# Altium integrated library Infineon_Power_Smart_Low-Side_&_High-Side_Switches.IntLib: 238 symbols (part 4 of 14)
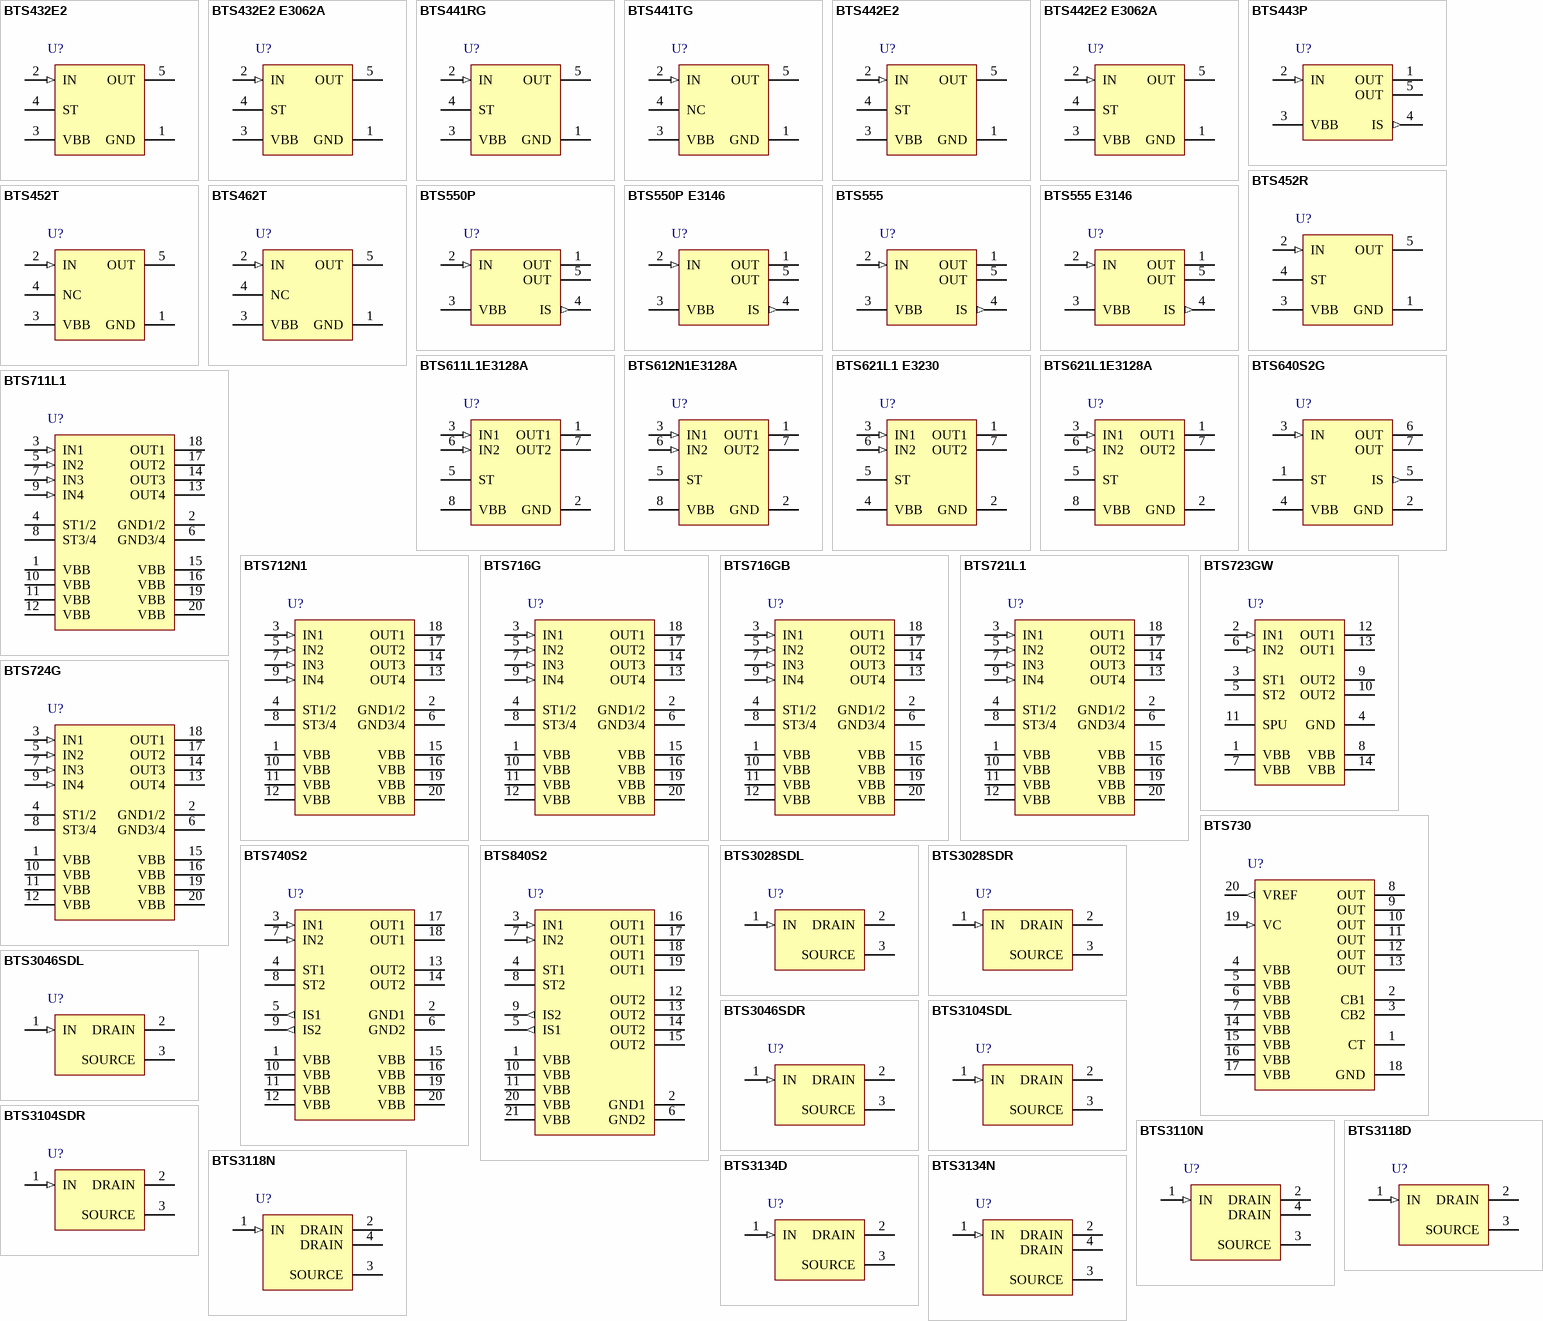
[diagram p10: symbols BTS432E2 to BTS3134N]

## BTS730
designator U?
Smart High-Side Power Switch, 1 Channel, 3 A Load Current, -40 to 150 degC, PG-DSO-20-31, Reel, Green; Manufacturer: Infineon; PartNumber: BTS730; Channels: 1; Green: TRUE; Group: Automotive Qualified; Load Current (typ): 3 A; Ptot (max): 3 W; Recommended Operating Voltage Max.: 16.9 V; Recommended Operating Voltage Min.: 5.9 V; RON @ 25degreesC: 70 mOhm; RON(max) @ 150degreesC: 140 mOhm; DatasheetVersion: Rev. 1.0; PackageVersion: Jan-12; PackageReference: PG-DSO-20-31; PackageDescription: 20-Pin Plastic (Green) Dual Small Outline Package, 12.7 x 7.5 mm Body, 1.27 mm Pitch; Supplier 1: Mouser; Supplier Part Number 1: 726-BTS730; Supplier 2: Digi-Key; Supplier Part Number 2: BTS730TR-ND; Supplier 3: Digi-Key; Supplier Part Number 3: BTS730CT-ND; Supplier 4: Digi-Key; Supplier Part Number 4: BTS730DKR-ND; Halogen-free: TRUE; Packing: Reel; Mounting Technology: Surface Mount; ComponentLink1Description: Manufacturer URL; ComponentLink1URL: http://www.infineon.com/; ComponentLink2Description: Datasheet; ComponentLink2URL: http://www.infineon.com/dgdl/BTS730.pdf?folderId=db3a304314dca389011537739e37155f&fileId=db3a30431c48a312011c4c202968001e&location=en.Products.Automotive_ICs.Smart_High-_and_Low-Side_Switches.PROFET__-_Smart_High_Side_Switches.DATASHEET.BTS730.pdf; ComponentLink3Description: Package Specification; ComponentLink3URL: http://www.infineon.com/dgdl/BTS711L1_DS13.pdf?folderId=db3a304314dca389011537739e37155f&fileId=db3a30432239cccd0122e55f98d43c5f&sId=db3a30433d68e984013d81ad4c8d73f2
footprint INF-PG-DSO-20-31_N (SOP, 20-Leads, Body 12.7x7.5mm, Pitch 1.27mm, IPC High Density)
footprint INF-PG-DSO-20-31_L (SOP, 20-Leads, Body 12.7x7.5mm, Pitch 1.27mm, IPC High Density)
footprint INF-PG-DSO-20-31_M (SOP, 20-Leads, Body 12.7x7.5mm, Pitch 1.27mm, IPC Low Density)
pins: 1 CT "Timing capacitor for frequency.", 2 CB1 "Bootstrap capacitor", 3 CB2 "Bootstrap capacitor", 4 VBB (power) "Supply voltage (Leadframe connected)", 5 VBB (power) "Supply voltage (Leadframe connected)", 6 VBB (power) "Supply voltage (Leadframe connected)", 7 VBB (power) "Supply voltage (Leadframe connected)", 8 OUT (power) "Output", 9 OUT (power) "Output", 10 OUT (power) "Output", 11 OUT (power) "Output", 12 OUT (power) "Output", 13 OUT (power) "Output", 14 VBB (power) "Supply voltage (Leadframe connected)", 15 VBB (power) "Supply voltage (Leadframe connected)", 16 VBB (power) "Supply voltage (Leadframe connected)", 17 VBB (power) "Supply voltage (Leadframe connected)", 18 GND (power) "Ground", 19 VC (in) "Voltage for PWM-Control", 20 VREF (out) "Reference Voltage."

## BTS740S2
designator U?
Smart High-Side Power Switch, 2 Channels, 3.9 A Load Current, -40 to 150 degC, PG-DSO-20-31, Reel, Green; Manufacturer: Infineon; PartNumber: BTS740S2; Channels: 2; Green: TRUE; Group: Automotive Qualified; Load Current (typ): 3.9 A; Ptot (max): 3.8 W; Recommended Operating Voltage Max.: 34 V; Recommended Operating Voltage Min.: 5 V; RON @ 25degreesC: 30 mOhm; RON(max) @ 150degreesC: 60 mOhm; toff (max): 200 us; ton (max): 150 us; DatasheetVersion: Rev. 1.0; PackageVersion: Jan-12; PackageReference: PG-DSO-20-31; PackageDescription: 20-Pin Plastic (Green) Dual Small Outline Package, 12.7 x 7.5 mm Body, 1.27 mm Pitch; Supplier 1: Mouser; Supplier Part Number 1: 726-BTS740S2; Supplier 2: Digi-Key; Supplier Part Number 2: BTS740S2TR-ND; Supplier 3: Digi-Key; Supplier Part Number 3: BTS740S2CT-ND; Supplier 4: Digi-Key; Supplier Part Number 4: BTS740S2DKR-ND; Halogen-free: TRUE; Packing: Reel; Mounting Technology: Surface Mount; ComponentLink1Description: Manufacturer URL; ComponentLink1URL: http://www.infineon.com/; ComponentLink2Description: Datasheet; ComponentLink2URL: http://www.infineon.com/dgdl/BTS740S2.pdf?folderId=db3a304314dca389011537739e37155f&fileId=db3a304316f112290116f2cd736f729f&location=en.Products.Automotive_ICs.Smart_High-_and_Low-Side_Switches.PROFET__-_Smart_High_Side_Switches.DATASHEET.BTS740S2.pdf; ComponentLink3Description: Package Specification; ComponentLink3URL: http://www.infineon.com/dgdl/BTS711L1_DS13.pdf?folderId=db3a304314dca389011537739e37155f&fileId=db3a30432239cccd0122e55f98d43c5f&sId=db3a30433d68e984013d81ad4c8d73f2
footprint INF-PG-DSO-20-31_N (SOP, 20-Leads, Body 12.7x7.5mm, Pitch 1.27mm, IPC High Density)
footprint INF-PG-DSO-20-31_L (SOP, 20-Leads, Body 12.7x7.5mm, Pitch 1.27mm, IPC High Density)
footprint INF-PG-DSO-20-31_M (SOP, 20-Leads, Body 12.7x7.5mm, Pitch 1.27mm, IPC Low Density)
pins: 1 VBB (power) "Positive power supply voltage. Design the wiring for the simultaneous max. short circuit currents from channel 1 to 2 and also for low thermal resistance", 2 GND1 (power) "Ground 1 of chip 1 (channel 1)", 3 IN1 (in) "Input 1,2, activates channel 1,2 in case of logic high signal", 4 ST1 (oc) "Diagnostic feedback 1,2 of channel 1,2, open drain, invers to input level", 5 IS1 (out) "Sense current output 1,2; proportional to the load current, zero in the case of current limitation of the load current", 6 GND2 (power) "Ground 2 of chip 2 (channel 2)", 7 IN2 (in) "Input 1,2, activates channel 1,2 in case of logic high signal", 8 ST2 (oc) "Diagnostic feedback 1,2 of channel 1,2, open drain, invers to input level", 9 IS2 (out) "Sense current output 1,2; proportional to the load current, zero in the case of current limitation of the load current", 10 VBB (power) "Positive power supply voltage. Design the wiring for the simultaneous max. short circuit currents from channel 1 to 2 and also for low thermal resistance", 11 VBB (power) "Positive power supply voltage. Design the wiring for the simultaneous max. short circuit currents from channel 1 to 2 and also for low thermal resistance", 12 VBB (power) "Positive power supply voltage. Design the wiring for the simultaneous max. short circuit currents from channel 1 to 2 and also for low thermal resistance", 13 OUT2 (power) "Output 1,2, protected high-side power output of channel 1,2. Both pins of each output have to be connected in parallel for operation according ths spec (e.g. kilis). Design the wiring for the max. short circuit current", 14 OUT2 (power) "Output 1,2, protected high-side power output of channel 1,2. Both pins of each output have to be connected in parallel for operation according ths spec (e.g. kilis). Design the wiring for the max. short circuit current", 15 VBB (power) "Positive power supply voltage. Design the wiring for the simultaneous max. short circuit currents from channel 1 to 2 and also for low thermal resistance", 16 VBB (power) "Positive power supply voltage. Design the wiring for the simultaneous max. short circuit currents from channel 1 to 2 and also for low thermal resistance", 17 OUT1 (power) "Output 1,2, protected high-side power output of channel 1,2. Both pins of each output have to be connected in parallel for operation according ths spec (e.g. kilis). Design the wiring for the max. short circuit current", 18 OUT1 (power) "Output 1,2, protected high-side power output of channel 1,2. Both pins of each output have to be connected in parallel for operation according ths spec (e.g. kilis). Design the wiring for the max. short circuit current", 19 VBB (power) "Positive power supply voltage. Design the wiring for the simultaneous max. short circuit currents from channel 1 to 2 and also for low thermal resistance", 20 VBB (power) "Positive power supply voltage. Design the wiring for the simultaneous max. short circuit currents from channel 1 to 2 and also for low thermal resistance"

## BTS840S2
designator U?
Smart High-Side Power Switch, 2 Channels, 12 A Load Current, -40 to 150 degC, P-DSO-20-12, Reel; Manufacturer: Infineon; PartNumber: BTS840S2; Channels: 2; Green: FALSE; Group: Automotive Qualified; Load Current (typ): 12 A; Ptot (max): 3.8 W; Recommended Operating Voltage Max.: 34 V; Recommended Operating Voltage Min.: 5 V; RON @ 25degreesC: 30 mOhm; toff (max): 200 us; ton (max): 150 us; PackageVersion: Oct-03; PackageReference: P-DSO-20-12; PackageDescription: 20-Pin Plastic Dual Small Outline Package, 15.9 x 11 mm Body, 1.27 mm Pitch; Supplier 1: Mouser; Supplier Part Number 1: 726-BTS840S2; Supplier 2: Digi-Key; Supplier Part Number 2: BTS840S2INTR-ND; Supplier 3: Digi-Key; Supplier Part Number 3: BTS840S2INCT-ND; Supplier 4: Digi-Key; Supplier Part Number 4: BTS840S2INDKR-ND; Halogen-free: FALSE; Packing: Reel; Mounting Technology: Surface Mount; ComponentLink1Description: Manufacturer URL; ComponentLink1URL: http://www.infineon.com/; ComponentLink2Description: Datasheet; ComponentLink2URL: http://www.infineon.com/dgdl/BTS840S2_20030919.pdf?folderId=db3a30431ddc9372011e26863f92474e&fileId=db3a3043324cae8c01325da3b5ab0aa5&location=en.Products.Automotive_ICs.Smart_High-_and_Low-Side_Switches.PROFET__-_Smart_High_Side_Switches.DATASHEET.BTS840S2_20030919.pdf; ComponentLink3Description: Package Specification; ComponentLink3URL: http://www.infineon.com/dgdl/BTS840S2_20030919.pdf?folderId=db3a30431ddc9372011e26863f92474e&fileId=db3a3043324cae8c01325da3b5ab0aa5&sId=db3a30433d68e984013d856d6e600dde
footprint INF-P-DSO-20-12_N (SOP, 20-Leads, Body 15.9x11mm, Pitch 1.27mm, Thermal Pad 16.05x6mm, IPC Medium Density)
footprint INF-P-DSO-20-12_L (SOP, 20-Leads, Body 15.9x11mm, Pitch 1.27mm, Thermal Pad 16.05x6mm, IPC High Density)
footprint INF-P-DSO-20-12_M (SOP, 20-Leads, Body 15.9x11mm, Pitch 1.27mm, Thermal Pad 16.05x6mm, IPC Low Density)
pins: 1 VBB (power) "Positive power supply voltage. For high current applications the heat slug should be used as Vbb connection.", 2 GND1 (power) "Ground 1,2 of chip channel 1,2", 3 IN1 (in) "Input 1,2, activates channel 1,2 in case of logic high signal", 4 ST1 (oc) "Diagnostic feedback 1,2 of channel 1,2 open drain, invers to input level", 5 IS1 (out) "Sense current output 1,2; proportional to the load current, zero in the case of current limitation of the load current", 6 GND2 (power) "Ground 1,2 of chip channel 1,2", 7 IN2 (in) "Input 1,2, activates channel 1,2 in case of logic high signal", 8 ST2 (oc) "Diagnostic feedback 1,2 of channel 1,2 open drain, invers to input level", 9 IS2 (out) "Sense current output 1,2; proportional to the load current, zero in the case of current limitation of the load current", 10 VBB (power) "Positive power supply voltage. For high current applications the heat slug should be used as Vbb connection.", 11 VBB (power) "Positive power supply voltage. For high current applications the heat slug should be used as Vbb connection.", 12 OUT2 (power) "Output 1,2, protected high-side power output of channel 1,2. All pins of each output have to be connected in parallel for operation according ths spec (e.g. kilis). Design the wiring for the max. short circuit current", 13 OUT2 (power) "Output 1,2, protected high-side power output of channel 1,2. All pins of each output have to be connected in parallel for operation according ths spec (e.g. kilis). Design the wiring for the max. short circuit current", 14 OUT2 (power) "Output 1,2, protected high-side power output of channel 1,2. All pins of each output have to be connected in parallel for operation according ths spec (e.g. kilis). Design the wiring for the max. short circuit current", 15 OUT2 (power) "Output 1,2, protected high-side power output of channel 1,2. All pins of each output have to be connected in parallel for operation according ths spec (e.g. kilis). Design the wiring for the max. short circuit current", 16 OUT1 (power) "Output 1,2, protected high-side power output of channel 1,2. All pins of each output have to be connected in parallel for operation according ths spec (e.g. kilis). Design the wiring for the max. short circuit current", 17 OUT1 (power) "Output 1,2, protected high-side power output of channel 1,2. All pins of each output have to be connected in parallel for operation according ths spec (e.g. kilis). Design the wiring for the max. short circuit current", 18 OUT1 (power) "Output 1,2, protected high-side power output of channel 1,2. All pins of each output have to be connected in parallel for operation according ths spec (e.g. kilis). Design the wiring for the max. short circuit current", 19 OUT1 (power) "Output 1,2, protected high-side power output of channel 1,2. All pins of each output have to be connected in parallel for operation according ths spec (e.g. kilis). Design the wiring for the max. short circuit current", 20 VBB (power) "Positiv powersupply voltage. Good way to design a very low thermal resistance.", 21 VBB (power) "Positiv powersupply voltage. Good way to design a very low thermal resistance."

## BTS3028SDL
designator U?
HITFET 28 mOhm Single Channel Smart Low Side Power Switch for 12 V & 24 V Application, 60 V VDS, 5 A ID, -40 to 150 degC, PG-TO252-3-11, Reel, Green; Manufacturer: Infineon; PartNumber: BTS3028SDL; Channels: 1; Green: TRUE; ID: 5 A; ID(lim) (min): 18 A; RDS (on)(max): 30 mOhm; ton (max): 100 us; toff (max): 120 us; VDS (max): 60 V; DatasheetVersion: Rev. 1.0; PackageVersion: Dec-06; PackageReference: PG-TO252-3-11; PackageDescription: 3-Pin Plastic (Green) Transistor Single Outline Package, 6.5 x 6.12 mm Body, 2.28 mm Pitch; Supplier 1: Mouser; Supplier Part Number 1: 726-BTS3028SDL; Supplier 2: Digi-Key; Supplier Part Number 2: BTS3028SDL-ND; Group: HITFET; Halogen-free: TRUE; ID(nom): 5 A; Packing: Reel; Mounting Technology: Surface Mount; ComponentLink1Description: Manufacturer URL; ComponentLink1URL: http://www.infineon.com/; ComponentLink2Description: Datasheet; ComponentLink2URL: http://www.infineon.com/dgdl/BTS3028SDL_DS_10.pdf?folderId=db3a3043163797a6011667aa084c0e01&fileId=db3a304325afd6e00126320ad72c63fb&location=en.Products.Automotive_ICs.Smart_High-_and_Low-Side_Switches.HITFET___TEMPFET__-_Smart_Low-Side_Switches.DATASHEET.BTS3028SDL_DS_10.pdf; ComponentLink3Description: Package Specification; ComponentLink3URL: http://www.infineon.com/dgdl/BTS142_DS_13.pdf?folderId=db3a3043163797a6011667aa084c0e01&fileId=db3a3043163797a6011667ac98be0e02&location=en.Products.Automotive_ICs.Smart_High-_and_Low-Side_Switches.HITFET___TEMPFET__-_Smart_Low-Side_Switches.DATASHEET.BTS142_DS_13.pdf
footprint INF-PG-TO252-3-11_N (DPAK, 3-Leads, Body 6.5x6.12mm, Pitch 2.28mm, IPC Medium Density)
footprint INF-PG-TO252-3-11_L (DPAK, 3-Leads, Body 6.5x6.12mm, Pitch 2.28mm, IPC High Density)
footprint INF-PG-TO252-3-11_M (DPAK, 3-Leads, Body 6.5x6.12mm, Pitch 2.28mm, IPC Low Density)
pins: 1 IN (in) "Input and fault feedback", 2 DRAIN (power) "Load connection for power DMOS", 3 SOURCE (power) "Ground, Source of power DMOS"

## BTS3028SDR
designator U?
HITFET 28 mOhm Single Channel Smart Low Side Power Switch for 12 V & 24 V Application, 60 V VDS, 5 A ID, -40 to 150 degC, PG-TO252-3-11, Reel, Green; Manufacturer: Infineon; PartNumber: BTS3028SDR; Channels: 1; Green: TRUE; ID: 5 A; ID(lim) (min): 18 A; RDS (on)(max): 30 mOhm; ton (max): 100 us; toff (max): 120 us; VDS (max): 60 V; DatasheetVersion: Rev. 1.0; PackageVersion: Dec-06; PackageReference: PG-TO252-3-11; PackageDescription: 3-Pin Plastic (Green) Transistor Single Outline Package, 6.5 x 6.12 mm Body, 2.28 mm Pitch; Supplier 1: Mouser; Supplier Part Number 1: 726-BTS3028SDR; Supplier 2: Digi-Key; Supplier Part Number 2: BTS3028SDR-ND; Group: HITFET; Halogen-free: TRUE; ID(nom): 5 A; Packing: Reel; Mounting Technology: Surface Mount; ComponentLink1Description: Manufacturer URL; ComponentLink1URL: http://www.infineon.com/; ComponentLink2Description: Datasheet; ComponentLink2URL: http://www.infineon.com/dgdl/BTS3028SDR_DS_10.pdf?folderId=db3a3043163797a6011667aa084c0e01&fileId=db3a304325afd6e0012632122ea5640c&location=en.Products.Automotive_ICs.Smart_High-_and_Low-Side_Switches.HITFET___TEMPFET__-_Smart_Low-Side_Switches.DATASHEET.BTS3028SDR_DS_10.pdf; ComponentLink3Description: Package Specification; ComponentLink3URL: http://www.infineon.com/dgdl/BTS142_DS_13.pdf?folderId=db3a3043163797a6011667aa084c0e01&fileId=db3a3043163797a6011667ac98be0e02&location=en.Products.Automotive_ICs.Smart_High-_and_Low-Side_Switches.HITFET___TEMPFET__-_Smart_Low-Side_Switches.DATASHEET.BTS142_DS_13.pdf
footprint INF-PG-TO252-3-11_N (DPAK, 3-Leads, Body 6.5x6.12mm, Pitch 2.28mm, IPC Medium Density)
footprint INF-PG-TO252-3-11_L (DPAK, 3-Leads, Body 6.5x6.12mm, Pitch 2.28mm, IPC High Density)
footprint INF-PG-TO252-3-11_M (DPAK, 3-Leads, Body 6.5x6.12mm, Pitch 2.28mm, IPC Low Density)
pins: 1 IN (in) "Input and fault feedback", 2 DRAIN (power) "Load connection for power DMOS", 3 SOURCE (power) "Ground, Source of power DMOS"

## BTS3046SDL
designator U?
HITFET 46 mOhm Single Channel Smart Low Side Power Switch for12 V & 24 V Application, 60 V VDS, 3.6 A ID, -40 to 150 degC, PG-TO252-3-11, Reel, Green; Manufacturer: Infineon; PartNumber: BTS3046SDL; Channels: 1; Green: TRUE; ID: 3.6 A; ID(lim) (min): 10 A; RDS (on)(max): 50 mOhm; ton (max): 100 us; toff (max): 120 us; VDS (max): 60 V; DatasheetVersion: Rev. 1.0; PackageVersion: Dec-06; PackageReference: PG-TO252-3-11; PackageDescription: 3-Pin Plastic (Green) Transistor Single Outline Package, 6.5 x 6.12 mm Body, 2.28 mm Pitch; Supplier 1: Mouser; Supplier Part Number 1: 726-BTS3046SDL; Supplier 2: Digi-Key; Supplier Part Number 2: BTS3046SDL-ND; Group: HITFET; Halogen-free: TRUE; ID(nom): 3.6 A; Packing: Reel; Mounting Technology: Surface Mount; ComponentLink1Description: Manufacturer URL; ComponentLink1URL: http://www.infineon.com/; ComponentLink2Description: Datasheet; ComponentLink2URL: http://www.infineon.com/dgdl/BTS3046SDL_DS_10.pdf?folderId=db3a3043163797a6011667aa084c0e01&fileId=db3a304325afd6e001263232a5146438&location=en.Products.Automotive_ICs.Smart_High-_and_Low-Side_Switches.HITFET___TEMPFET__-_Smart_Low-Side_Switches.DATASHEET.BTS3046SDL_DS_10.pdf; ComponentLink3Description: Package Specification; ComponentLink3URL: http://www.infineon.com/dgdl/BTS142_DS_13.pdf?folderId=db3a3043163797a6011667aa084c0e01&fileId=db3a3043163797a6011667ac98be0e02&location=en.Products.Automotive_ICs.Smart_High-_and_Low-Side_Switches.HITFET___TEMPFET__-_Smart_Low-Side_Switches.DATASHEET.BTS142_DS_13.pdf
footprint INF-PG-TO252-3-11_N (DPAK, 3-Leads, Body 6.5x6.12mm, Pitch 2.28mm, IPC Medium Density)
footprint INF-PG-TO252-3-11_L (DPAK, 3-Leads, Body 6.5x6.12mm, Pitch 2.28mm, IPC High Density)
footprint INF-PG-TO252-3-11_M (DPAK, 3-Leads, Body 6.5x6.12mm, Pitch 2.28mm, IPC Low Density)
pins: 1 IN (in) "Input and fault feedback", 2 DRAIN (power) "Load connection for power DMOS", 3 SOURCE (power) "Ground, Source of power DMOS"

## BTS3046SDR
designator U?
HITFET 46 mOhm Single Channel Smart Low Side Power Switch for12 V & 24 V Application, 60 V VDS, 3.6 A ID, -40 to 150 degC, PG-TO252-3-11, Reel, Green; Manufacturer: Infineon; PartNumber: BTS3046SDR; Channels: 1; Green: TRUE; ID: 3.6 A; ID(lim) (min): 10 A; RDS (on)(max): 50 mOhm; ton (max): 100 us; toff (max): 120 us; VDS (max): 60 V; DatasheetVersion: Rev. 1.0; PackageVersion: Dec-06; PackageReference: PG-TO252-3-11; PackageDescription: 3-Pin Plastic (Green) Transistor Single Outline Package, 6.5 x 6.12 mm Body, 2.28 mm Pitch; Supplier 1: Mouser; Supplier Part Number 1: 726-BTS3046SDR; Supplier 2: Digi-Key; Supplier Part Number 2: BTS3046SDR-ND; Group: HITFET; Halogen-free: TRUE; ID(nom): 3.6 A; Packing: Reel; Mounting Technology: Surface Mount; ComponentLink1Description: Manufacturer URL; ComponentLink1URL: http://www.infineon.com/; ComponentLink2Description: Datasheet; ComponentLink2URL: http://www.infineon.com/dgdl/BTS3046SDR_DS_10.pdf?folderId=db3a3043163797a6011667aa084c0e01&fileId=db3a304325afd6e00126323663346449&location=en.Products.Automotive_ICs.Smart_High-_and_Low-Side_Switches.HITFET___TEMPFET__-_Smart_Low-Side_Switches.DATASHEET.BTS3046SDR_DS_10.pdf; ComponentLink3Description: Package Specification; ComponentLink3URL: http://www.infineon.com/dgdl/BTS142_DS_13.pdf?folderId=db3a3043163797a6011667aa084c0e01&fileId=db3a3043163797a6011667ac98be0e02&location=en.Products.Automotive_ICs.Smart_High-_and_Low-Side_Switches.HITFET___TEMPFET__-_Smart_Low-Side_Switches.DATASHEET.BTS142_DS_13.pdf
footprint INF-PG-TO252-3-11_N (DPAK, 3-Leads, Body 6.5x6.12mm, Pitch 2.28mm, IPC Medium Density)
footprint INF-PG-TO252-3-11_L (DPAK, 3-Leads, Body 6.5x6.12mm, Pitch 2.28mm, IPC High Density)
footprint INF-PG-TO252-3-11_M (DPAK, 3-Leads, Body 6.5x6.12mm, Pitch 2.28mm, IPC Low Density)
pins: 1 IN (in) "Input and fault feedback", 2 DRAIN (power) "Load connection for power DMOS", 3 SOURCE (power) "Ground, Source of power DMOS"

## BTS3104SDL
designator U?
HITFET 104 mOhm Single Channel Smart Low Side Power Switch for 12 V & 14 V Application, 60 V VDS, 2 A ID, -40 to 150 degC, PG-TO252-3-11, Reel, Green; Manufacturer: Infineon; PartNumber: BTS3104SDL; Channels: 1; Green: TRUE; ID: 2 A; ID(lim) (min): 6 A; ton (max): 100 us; toff (max): 120 us; VDS (max): 60 V; DatasheetVersion: Rev. 1.0; PackageVersion: Dec-06; PackageReference: PG-TO252-3-11; PackageDescription: 3-Pin Plastic (Green) Transistor Single Outline Package, 6.5 x 6.12 mm Body, 2.28 mm Pitch; Supplier 1: Mouser; Supplier Part Number 1: 726-BTS3104SDL; Supplier 2: Digi-Key; Supplier Part Number 2: BTS3104SDL-ND; Group: HITFET; Halogen-free: TRUE; ID(nom): 2 A; Packing: Reel; RDS (on)(max): 104 mOhm; Mounting Technology: Surface Mount; ComponentLink1Description: Manufacturer URL; ComponentLink1URL: http://www.infineon.com/; ComponentLink2Description: Datasheet; ComponentLink2URL: http://www.infineon.com/dgdl/BTS3104SDL_DS_10.pdf?folderId=db3a3043163797a6011667aa084c0e01&fileId=db3a304325afd6e00126323a45d9645b&location=en.Products.Automotive_ICs.Smart_High-_and_Low-Side_Switches.HITFET___TEMPFET__-_Smart_Low-Side_Switches.DATASHEET.BTS3104SDL_DS_10.pdf; ComponentLink3Description: Package Specification; ComponentLink3URL: http://www.infineon.com/dgdl/BTS142_DS_13.pdf?folderId=db3a3043163797a6011667aa084c0e01&fileId=db3a3043163797a6011667ac98be0e02&location=en.Products.Automotive_ICs.Smart_High-_and_Low-Side_Switches.HITFET___TEMPFET__-_Smart_Low-Side_Switches.DATASHEET.BTS142_DS_13.pdf
footprint INF-PG-TO252-3-11_N (DPAK, 3-Leads, Body 6.5x6.12mm, Pitch 2.28mm, IPC Medium Density)
footprint INF-PG-TO252-3-11_L (DPAK, 3-Leads, Body 6.5x6.12mm, Pitch 2.28mm, IPC High Density)
footprint INF-PG-TO252-3-11_M (DPAK, 3-Leads, Body 6.5x6.12mm, Pitch 2.28mm, IPC Low Density)
pins: 1 IN (in) "Input and fault feedback", 2 DRAIN (power) "Load connection for power DMOS", 3 SOURCE (power) "Ground, Source of power DMOS"

## BTS3104SDR
designator U?
104 mOhm Single Channel Smart Low Side Power Switch for 12 V & 24 V Application, 60 V VDS, 2 A ID, -40 to 150 degC, PG-TO252-3-11, Reel, Green; Manufacturer: Infineon; PartNumber: BTS3104SDR; Channels: 1; Green: TRUE; Group: HITFET; ID: 2 A; ID(lim) (min): 6 A; ton (max): 100 us; toff (max): 120 us; VDS (max): 60 V; DatasheetVersion: Rev. 1.0; PackageVersion: Dec-06; PackageReference: PG-TO252-3-11; PackageDescription: 3-Pin Plastic (Green) Transistor Single Outline Package, 6.5 x 6.12 mm Body, 2.28 mm Pitch; Supplier 1: Mouser; Supplier Part Number 1: 726-BTS3104SDR; Supplier 2: Digi-Key; Supplier Part Number 2: BTS3104SDR-ND; Halogen-free: TRUE; ID(nom): 2 A; Packing: Reel; RDS (on)(max): 104 mOhm; Mounting Technology: Surface Mount; ComponentLink1Description: Manufacturer URL; ComponentLink1URL: http://www.infineon.com/; ComponentLink2Description: Datasheet; ComponentLink2URL: http://www.infineon.com/dgdl/BTS3104SDR_DS_10.pdf?folderId=db3a3043163797a6011667aa084c0e01&fileId=db3a304325afd6e00126323d7380646d&location=en.Products.Automotive_ICs.Smart_High-_and_Low-Side_Switches.HITFET___TEMPFET__-_Smart_Low-Side_Switches.DATASHEET.BTS3104SDR_DS_10.pdf; ComponentLink3Description: Package Specification; ComponentLink3URL: http://www.infineon.com/dgdl/BTS142_DS_13.pdf?folderId=db3a3043163797a6011667aa084c0e01&fileId=db3a3043163797a6011667ac98be0e02&location=en.Products.Automotive_ICs.Smart_High-_and_Low-Side_Switches.HITFET___TEMPFET__-_Smart_Low-Side_Switches.DATASHEET.BTS142_DS_13.pdf
footprint INF-PG-TO252-3-11_N (DPAK, 3-Leads, Body 6.5x6.12mm, Pitch 2.28mm, IPC Medium Density)
footprint INF-PG-TO252-3-11_L (DPAK, 3-Leads, Body 6.5x6.12mm, Pitch 2.28mm, IPC High Density)
footprint INF-PG-TO252-3-11_M (DPAK, 3-Leads, Body 6.5x6.12mm, Pitch 2.28mm, IPC Low Density)
pins: 1 IN (in), 2 DRAIN (power), 3 SOURCE (power)

## BTS3110N
designator U?
Smart Low-Side Power Switch HITFET, 42 V VDS, 1.4 A ID, -40 to 150 degC, PG-SOT223-SC-73, Reel, Green; Manufacturer: Infineon; PartNumber: BTS3110N; Channels: 1; Green: TRUE; ID: 1.4 A; ID(lim) (min): 5 A; Ptot (max): 3.8 W; RDS (on)(max): 240 mOhm; ton (max): 100 us; VDS (max): 42 V; DatasheetVersion: Rev. 1.3; PackageVersion: Apr-08; PackageReference: PG-SOT223 (SC-73); PackageDescription: 4-Pin Small Outline Transistor Package, 6.5 x 3.5 mm Body, 2.3 mm Pitch; Supplier 1: Mouser; Supplier Part Number 1: 726-BTS3110N; Supplier 2: Newark; Supplier Part Number 2: 78X4825; Supplier 3: Farnell; Supplier Part Number 3: 2432483; Supplier 4: Digi-Key; Supplier Part Number 4: BTS3110NTR-ND; Supplier 5: Digi-Key; Supplier Part Number 5: BTS3110NCT-ND; Supplier 6: Digi-Key; Supplier Part Number 6: BTS3110NDKR-ND; Group: HITFET; Halogen-free: FALSE; ID(nom): 1.4 A; Packing: Reel; toff (max): 100 us; Mounting Technology: Surface Mount; ComponentLink1Description: Manufacturer URL; ComponentLink1URL: http://www.infineon.com/; ComponentLink2Description: Datasheet; ComponentLink2URL: http://www.infineon.com/dgdl/BTS3110N_DS_13.pdf?folderId=db3a3043163797a6011667aa084c0e01&fileId=db3a304319c6f18c0119c7bd0b64001f&location=en.Products.Automotive_ICs.Smart_High-_and_Low-Side_Switches.HITFET___TEMPFET__-_Smart_Low-Side_Switches.DATASHEET.BTS3110N_DS_13.pdf; ComponentLink3Description: Package Specification; ComponentLink3URL: http://www.infineon.com/dgdl/SOT223-Package_Overview.pdf?folderId=db3a30431936bc4b0119530470b03c3d&fileId=db3a30431936bc4b0119531d40b93c5c
footprint INF-PG-SOT223_SC-73_N (SOT223, 4-Leads, Body 6.5x3.5mm, Pitch 2.3mm, IPC Medium Density)
footprint INF-PG-SOT223_SC-73_L (SOT223, 4-Leads, Body 6.5x3.5mm, Pitch 2.3mm, IPC High Density)
footprint INF-PG-SOT223_SC-73_M (SOT223, 4-Leads, Body 6.5x3.5mm, Pitch 2.3mm, IPC Low Density)
pins: 1 IN (in), 2 DRAIN (power), 3 SOURCE (power), 4 DRAIN (power)

## BTS3118D
designator U?
Smart Low-Side Power Switch Power HITFET, 42 V VDS, 2.4 A ID, -40 to 150 degC, PG-TO252-3-11, Reel, Green; Manufacturer: Infineon; PartNumber: BTS3118D; Channels: 1; Green: TRUE; ID: 2.4 A; ID(lim) (min): 15 A; Ptot (max): 21 W; RDS (on)(max): 100 mOhm; ton (max): 100 us; VDS (max): 42 V; DatasheetVersion: Rev. 1.3; PackageVersion: Dec-06; PackageReference: PG-TO252-3-11; PackageDescription: 3-Pin Plastic (Green) Transistor Single Outline Package, 6.5 x 6.12 mm Body, 2.28 mm Pitch; Supplier 1: Mouser; Supplier Part Number 1: 726-BTS3118D; Supplier 2: Digi-Key; Supplier Part Number 2: BTS3118DINTR-ND; Supplier 3: Digi-Key; Supplier Part Number 3: BTS3118DINCT-ND; Supplier 4: Digi-Key; Supplier Part Number 4: BTS3118DINDKR-ND; Group: HITFET; Halogen-free: FALSE; ID(nom): 2.4 A; Packing: Reel; toff (max): 100 us; Mounting Technology: Surface Mount; ComponentLink1Description: Manufacturer URL; ComponentLink1URL: http://www.infineon.com/; ComponentLink2Description: Datasheet; ComponentLink2URL: http://www.infineon.com/dgdl/BTS3118_DS_13.pdf?folderId=db3a3043163797a6011667aa084c0e01&fileId=db3a3043163797a6011667b19dc90e14&location=en.Products.Automotive_ICs.Smart_High-_and_Low-Side_Switches.HITFET___TEMPFET__-_Smart_Low-Side_Switches.DATASHEET.BTS3118_DS_13.pdf; ComponentLink3Description: Package Specification; ComponentLink3URL: http://www.infineon.com/dgdl/BTS142_DS_13.pdf?folderId=db3a3043163797a6011667aa084c0e01&fileId=db3a3043163797a6011667ac98be0e02&location=en.Products.Automotive_ICs.Smart_High-_and_Low-Side_Switches.HITFET___TEMPFET__-_Smart_Low-Side_Switches.DATASHEET.BTS142_DS_13.pdf
footprint INF-PG-TO252-3-11_N (DPAK, 3-Leads, Body 6.5x6.12mm, Pitch 2.28mm, IPC Medium Density)
footprint INF-PG-TO252-3-11_L (DPAK, 3-Leads, Body 6.5x6.12mm, Pitch 2.28mm, IPC High Density)
footprint INF-PG-TO252-3-11_M (DPAK, 3-Leads, Body 6.5x6.12mm, Pitch 2.28mm, IPC Low Density)
pins: 1 IN (in), 2 DRAIN (power), 3 SOURCE (power)

## BTS3118N
designator U?
Smart Low-Side Power Switch HITFET, 42 V VDS, 2.17 A ID, -40 to 150 degC, PG-SOT223 (SC-73), Reel, Green; Manufacturer: Infineon; PartNumber: BTS3118N; Channels: 1; Green: TRUE; ID: 2.4 A; ID(nom): 2.17 A; ID(lim) (min): 10 A; Ptot (max): 3.8 W; RDS (on)(max): 100 mOhm; ton (max): 100 us; VDS (max): 42 V; DatasheetVersion: Rev. 1.3; PackageVersion: Apr-08; PackageReference: PG-SOT223 (SC-73); PackageDescription: 4-Pin Small Outline Transistor Package, 6.5 x 3.5 mm Body, 2.3 mm Pitch; Supplier 1: Mouser; Supplier Part Number 1: 726-BTS3118N; Supplier 2: Newark; Supplier Part Number 2: 47W3382; Supplier 3: Farnell; Supplier Part Number 3: 2215504; Supplier 4: Digi-Key; Supplier Part Number 4: BTS3118NTR-ND; Supplier 5: Digi-Key; Supplier Part Number 5: BTS3118NCT-ND; Supplier 6: Digi-Key; Supplier Part Number 6: BTS3118NDKR-ND; Group: HITFET; Halogen-free: FALSE; Packing: Reel; toff (max): 100 us; Mounting Technology: Surface Mount; ComponentLink1Description: Manufacturer URL; ComponentLink1URL: http://www.infineon.com/; ComponentLink2Description: Datasheet; ComponentLink2URL: http://www.infineon.com/dgdl/BTS3118N_DS_13.pdf?folderId=db3a3043163797a6011667aa084c0e01&fileId=db3a3043271faefd01274cfd4c345d3b&location=en.Products.Automotive_ICs.Smart_High-_and_Low-Side_Switches.HITFET___TEMPFET__-_Smart_Low-Side_Switches.DATASHEET.BTS3118N_DS_13.pdf; ComponentLink3Description: Package Specification; ComponentLink3URL: http://www.infineon.com/dgdl/SOT223-Package_Overview.pdf?folderId=db3a30431936bc4b0119530470b03c3d&fileId=db3a30431936bc4b0119531d40b93c5c
footprint INF-PG-SOT223_SC-73_N (SOT223, 4-Leads, Body 6.5x3.5mm, Pitch 2.3mm, IPC Medium Density)
footprint INF-PG-SOT223_SC-73_L (SOT223, 4-Leads, Body 6.5x3.5mm, Pitch 2.3mm, IPC High Density)
footprint INF-PG-SOT223_SC-73_M (SOT223, 4-Leads, Body 6.5x3.5mm, Pitch 2.3mm, IPC Low Density)
pins: 1 IN (in), 2 DRAIN (power), 3 SOURCE (power), 4 DRAIN (power)

## BTS3134D
designator U?
Smart Low-Side Power Switch Power HITFET, 42 V VDS, 3.5 A ID, -40 to 150 degC, PG-TO252-3-11, Reel, Green; Manufacturer: Infineon; PartNumber: BTS3134D; Channels: 1; Green: TRUE; ID: 3.5 A; ID(lim) (min): 18 A; Ptot (max): 43 W; RDS (on)(max): 50 mOhm; ton (max): 100 us; VDS (max): 42 V; DatasheetVersion: Rev. 1.3; PackageVersion: Dec-06; PackageReference: PG-TO252-3-11; PackageDescription: 3-Pin Plastic (Green) Transistor Single Outline Package, 6.5 x 6.12 mm Body, 2.28 mm Pitch; Supplier 1: Mouser; Supplier Part Number 1: 726-BTS3134D; Supplier 2: Digi-Key; Supplier Part Number 2: BTS3134DINTR-ND; Supplier 3: Digi-Key; Supplier Part Number 3: BTS3134DINCT-ND; Supplier 4: Digi-Key; Supplier Part Number 4: BTS3134DINDKR-ND; Group: HITFET; Halogen-free: FALSE; ID(nom): 3.5 A; Packing: Reel; toff (max): 100 us; Mounting Technology: Surface Mount; ComponentLink1Description: Manufacturer URL; ComponentLink1URL: http://www.infineon.com/; ComponentLink2Description: Datasheet; ComponentLink2URL: http://www.infineon.com/dgdl/BTS3134_DS_13.pdf?folderId=db3a3043163797a6011667aa084c0e01&fileId=db3a3043163797a6011667b6f2a40e2a&location=en.Products.Automotive_ICs.Smart_High-_and_Low-Side_Switches.HITFET___TEMPFET__-_Smart_Low-Side_Switches.DATASHEET.BTS3134_DS_13.pdf; ComponentLink3Description: Package Specification; ComponentLink3URL: http://www.infineon.com/dgdl/BTS142_DS_13.pdf?folderId=db3a3043163797a6011667aa084c0e01&fileId=db3a3043163797a6011667ac98be0e02&location=en.Products.Automotive_ICs.Smart_High-_and_Low-Side_Switches.HITFET___TEMPFET__-_Smart_Low-Side_Switches.DATASHEET.BTS142_DS_13.pdf
footprint INF-PG-TO252-3-11_N (DPAK, 3-Leads, Body 6.5x6.12mm, Pitch 2.28mm, IPC Medium Density)
footprint INF-PG-TO252-3-11_L (DPAK, 3-Leads, Body 6.5x6.12mm, Pitch 2.28mm, IPC High Density)
footprint INF-PG-TO252-3-11_M (DPAK, 3-Leads, Body 6.5x6.12mm, Pitch 2.28mm, IPC Low Density)
pins: 1 IN (in), 2 DRAIN (power), 3 SOURCE (power)

## BTS3134N
designator U?
Smart Low-Side Power Switch HITFET, 42 V VDS, 3 A ID, -40 to 150 degC, PG-SOT223 (SC-73), Reel, Green; Manufacturer: Infineon; PartNumber: BTS3134N; Channels: 1; Green: TRUE; ID: 3 A; ID(lim) (min): 18 A; Ptot (max): 43 W; RDS (on)(max): 50 mOhm; ton (max): 100 us; VDS (max): 42 V; DatasheetVersion: Rev. 1.3; PackageVersion: Apr-08; PackageReference: PG-SOT223 (SC-73); PackageDescription: 4-Pin Small Outline Transistor Package, 6.5 x 3.5 mm Body, 2.3 mm Pitch; Supplier 1: Mouser; Supplier Part Number 1: 726-BTS3134N; Supplier 2: Newark; Supplier Part Number 2: 47W3383; Supplier 3: Farnell; Supplier Part Number 3: 2215491; Supplier 4: Digi-Key; Supplier Part Number 4: BTS3134NTR-ND; Supplier 5: Digi-Key; Supplier Part Number 5: BTS3134NCT-ND; Supplier 6: Digi-Key; Supplier Part Number 6: BTS3134NDKR-ND; Group: HITFET; Halogen-free: FALSE; ID(nom): 3 A; Packing: Reel; toff (max): 100 us; Mounting Technology: Surface Mount; ComponentLink1Description: Manufacturer URL; ComponentLink1URL: http://www.infineon.com/; ComponentLink2Description: Datasheet; ComponentLink2URL: http://www.infineon.com/dgdl/BTS3134N_DS_13.pdf?folderId=db3a3043163797a6011667aa084c0e01&fileId=db3a3043271faefd01274cf69aba5d29&location=en.Products.Automotive_ICs.Smart_High-_and_Low-Side_Switches.HITFET___TEMPFET__-_Smart_Low-Side_Switches.DATASHEET.BTS3134N_DS_13.pdf; ComponentLink3Description: Package Specification; ComponentLink3URL: http://www.infineon.com/dgdl/SOT223-Package_Overview.pdf?folderId=db3a30431936bc4b0119530470b03c3d&fileId=db3a30431936bc4b0119531d40b93c5c
footprint INF-PG-SOT223_SC-73_N (SOT223, 4-Leads, Body 6.5x3.5mm, Pitch 2.3mm, IPC Medium Density)
footprint INF-PG-SOT223_SC-73_L (SOT223, 4-Leads, Body 6.5x3.5mm, Pitch 2.3mm, IPC High Density)
footprint INF-PG-SOT223_SC-73_M (SOT223, 4-Leads, Body 6.5x3.5mm, Pitch 2.3mm, IPC Low Density)
pins: 1 IN (in), 2 DRAIN (power), 3 SOURCE (power), 4 DRAIN (power)

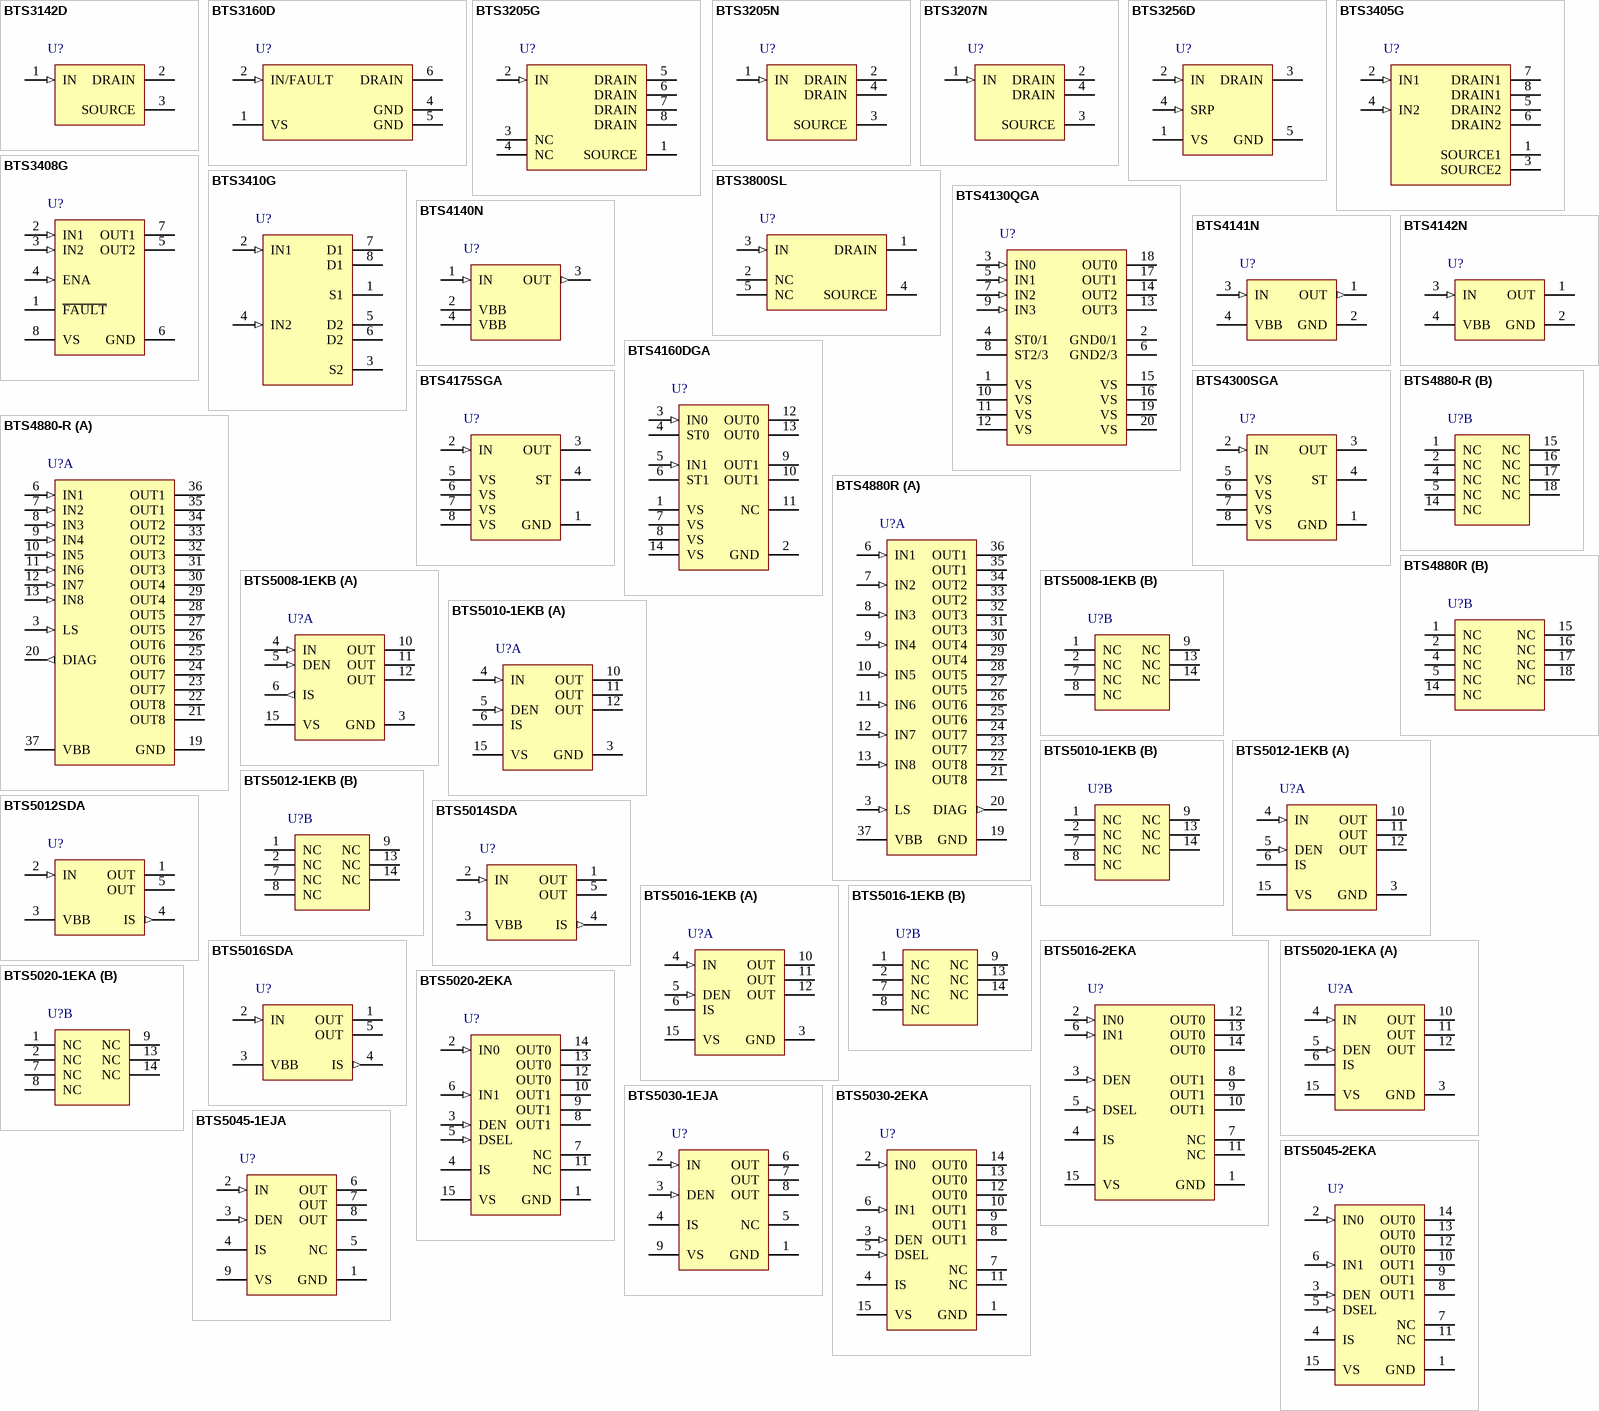
[diagram p2: symbols BTS3142D to BTS5045-2EKA]

## BTS3142D
designator U?
Smart Low-Side Power Switch Power HITFET, 42 V VDS, 3.5 A ID, -40 to 150 degC, PG-TO252-3-11, Reel, Green; Manufacturer: Infineon; PartNumber: BTS3142D; Channels: 1; Green: TRUE; ID: 3.5 A; ID(nom): 4.6 A; ID(lim) (min): 24 A; Ptot (max): 59 W; RDS (on)(max): 28 mOhm; ton (max): 120 us; VDS (max): 42 V; DatasheetVersion: Rev. 1.3; PackageVersion: Dec-06; PackageReference: PG-TO252-3-11; PackageDescription: 3-Pin Plastic (Green) Transistor Single Outline Package, 6.5 x 6.12 mm Body, 2.28 mm Pitch; Supplier 1: Mouser; Supplier Part Number 1: 726-BTS3142D; Supplier 2: Digi-Key; Supplier Part Number 2: BTS3142D-ND; Group: HITFET; Halogen-free: TRUE; Packing: Reel; toff (max): 120 us; Mounting Technology: Surface Mount; ComponentLink1Description: Manufacturer URL; ComponentLink1URL: http://www.infineon.com/; ComponentLink2Description: Datasheet; ComponentLink2URL: http://www.infineon.com/dgdl/BTS3142_DS_13.pdf?folderId=db3a3043163797a6011667aa084c0e01&fileId=db3a3043163797a6011667b922dd0e3b&location=en.Products.Automotive_ICs.Smart_High-_and_Low-Side_Switches.HITFET___TEMPFET__-_Smart_Low-Side_Switches.DATASHEET.BTS3142_DS_13.pdf; ComponentLink3Description: Package Specification; ComponentLink3URL: http://www.infineon.com/dgdl/BTS142_DS_13.pdf?folderId=db3a3043163797a6011667aa084c0e01&fileId=db3a3043163797a6011667ac98be0e02&location=en.Products.Automotive_ICs.Smart_High-_and_Low-Side_Switches.HITFET___TEMPFET__-_Smart_Low-Side_Switches.DATASHEET.BTS142_DS_13.pdf
footprint INF-PG-TO252-3-11_N (DPAK, 3-Leads, Body 6.5x6.12mm, Pitch 2.28mm, IPC Medium Density)
footprint INF-PG-TO252-3-11_L (DPAK, 3-Leads, Body 6.5x6.12mm, Pitch 2.28mm, IPC High Density)
footprint INF-PG-TO252-3-11_M (DPAK, 3-Leads, Body 6.5x6.12mm, Pitch 2.28mm, IPC Low Density)
pins: 1 IN (in), 2 DRAIN (power), 3 SOURCE (power)

## BTS3160D
designator U?
10 mOhm Smart Low Side Power Switch, 40 V VDS, 7.8 A ID, -40 to 150 degC, PG-TO252-5-13, Reel, Green; Manufacturer: Infineon; PartNumber: BTS3160D; Channels: 1; Green: TRUE; Group: HITFET; ID: 7.1 A; ID(nom): 7.8 A; ID(lim) (min): 70 A; ISC (max): 130 A; RDS (on)(max): 10 mOhm; ton (max): 250 us; VDS (max): 40 V; DatasheetVersion: Rev. 1.1; PackageVersion: Feb-08; PackageReference: PG-TO252-5-13; PackageDescription: 5-Pin Plastic (Green) Transistor Single Outline Package, 6.5 x 6.12 mm Body, 1.14 mm Pitch; Supplier 1: Mouser; Supplier Part Number 1: 726-BTS3160D; Supplier 2: Digi-Key; Supplier Part Number 2: BTS3160DTR-ND; Supplier 3: Digi-Key; Supplier Part Number 3: BTS3160DCT-ND; Supplier 4: Digi-Key; Supplier Part Number 4: BTS3160DDKR-ND; Halogen-free: TRUE; Packing: Reel; toff (max): 250 us; Mounting Technology: Surface Mount; ComponentLink1Description: Manufacturer URL; ComponentLink1URL: http://www.infineon.com/; ComponentLink2Description: Datasheet; ComponentLink2URL: http://www.infineon.com/dgdl/BTS3160_DS_11.pdf?folderId=db3a3043163797a6011667aa084c0e01&fileId=db3a3043271faefd01274cf870e05d2e&location=en.Products.Automotive_ICs.Smart_High-_and_Low-Side_Switches.HITFET___TEMPFET__-_Smart_Low-Side_Switches.DATASHEET.BTS3160_DS_11.pdf; ComponentLink3Description: Package Specification; ComponentLink3URL: http://www.infineon.com/dgdl/BTS3160_DS_11.pdf?folderId=db3a3043163797a6011667aa084c0e01&fileId=db3a3043271faefd01274cf870e05d2e&location=en.Products.Automotive_ICs.Smart_High-_and_Low-Side_Switches.HITFET___TEMPFET__-_Smart_Low-Side_Switches.DATASHEET.BTS3160_DS_11.pdf
footprint INF-PG-TO252-5-13_N (DPAK, 5-Leads, Body 6.5x6.12mm, Pitch 1.14mm, IPC Medium Density)
footprint INF-PG-TO252-5-13_L (DPAK, 5-Leads, Body 6.5x6.12mm, Pitch 1.14mm, IPC High Density)
footprint INF-PG-TO252-5-13_M (DPAK, 5-Leads, Body 6.5x6.12mm, Pitch 1.14mm, IPC Low Density)
pins: 1 VS (power) "Supply Voltage; Connected to Battery Voltage with Reverse polarity protection", 2 IN/FAULT (in) "Control Input and Status Feedback; Digital input 3.3 V or 5 V logic.", 4 GND (power) "Ground; Signal ground, Pin 4 and 5 must be externally shorted", 5 GND (power) "Ground; Signal ground, Pin 4 and 5 must be externally shorted", 6 DRAIN (power) "Drain output; Protected low side power output channel"

## BTS3205G
designator U?
Smart Low-Side Power Switch, 42 V VDS, 0.6 A ID, -40 to 150 degC, PG-DSO-8-24, Reel, Green; Manufacturer: Infineon; PartNumber: BTS3205G; Channels: 1; Green: TRUE; Group: HITFET; ID(nom): 0.35 A; ID(lim) (min): 0.6 A; Ptot (max): 0.78 W; RDS (on)(max): 700 mOhm; ton (max): 38 us; toff (max): 45 us; VDS (max): 42 V; DatasheetVersion: Rev. 1.1; PackageVersion: May-07; PackageReference: PG-DSO-8-24; PackageDescription: 8-Pin Plastic (Green) Dual Small Outline Package, 4.9 x 3.9 mm Body, 1.27 mm Pitch; Supplier 1: Mouser; Supplier Part Number 1: 726-BTS3205G; Supplier 2: Newark; Supplier Part Number 2: 47W3384; Supplier 3: Farnell; Supplier Part Number 3: 2215529; Supplier 4: Digi-Key; Supplier Part Number 4: BTS3205GTR-ND; Supplier 5: Digi-Key; Supplier Part Number 5: BTS3205GCT-ND; Supplier 6: Digi-Key; Supplier Part Number 6: BTS3205GDKR-ND; Halogen-free: TRUE; Packing: Reel; Mounting Technology: Surface Mount; ComponentLink1Description: Manufacturer URL; ComponentLink1URL: http://www.infineon.com/; ComponentLink2Description: Datasheet; ComponentLink2URL: http://www.infineon.com/dgdl/BTS3205G_DS_11.pdf?folderId=db3a3043163797a6011667aa084c0e01&fileId=db3a30431689f4420116d41e5a3c0ca2&location=en.Products.Automotive_ICs.Smart_High-_and_Low-Side_Switches.HITFET___TEMPFET__-_Smart_Low-Side_Switches.DATASHEET.BTS3205G_DS_11.pdf; ComponentLink3Description: Package Specification; ComponentLink3URL: http://www.infineon.com/dgdl/BSP742RI.pdf?folderId=db3a304314dca389011537739e37155f&fileId=db3a304316f112290116f22466b271a6&sId=db3a30433d68e984013d83055b4a7981
footprint INF-PG-DSO-8-24_N (SOP, 8-Leads, Body 4.9x3.9mm, Pitch 1.27mm, IPC Medium Density)
footprint INF-PG-DSO-8-24_L (SOP, 8-Leads, Body 4.9x3.9mm, Pitch 1.27mm, IPC High Density)
footprint INF-PG-DSO-8-24_M (SOP, 8-Leads, Body 4.9x3.9mm, Pitch 1.27mm, IPC Low Density)
pins: 1 SOURCE (power) "Ground connection", 2 IN (in) "Input / Fault feedback", 3 NC "not connection", 4 NC "not connection", 5 DRAIN (power) "Load connection", 6 DRAIN (power) "Load connection", 7 DRAIN (power) "Load connection", 8 DRAIN (power) "Load connection"

## BTS3205N
designator U?
Smart Low-Side Power Switch, 42 V VDS, 0.6 A ID, -40 to 150 degC, PG-SOT223 (SC-73), Reel, Green; Manufacturer: Infineon; PartNumber: BTS3205N; Channels: 1; Green: TRUE; Group: HITFET; ID(nom): 0.35 A; ID(lim) (min): 0.6 A; Ptot (max): 0.78 mW; RDS (on)(max): 700 mOhm; ton (max): 38 us; toff (max): 45 us; VDS (max): 42 V; DatasheetVersion: Rev. 1.1; PackageVersion: Apr-08; PackageReference: PG-SOT223 (SC-73); PackageDescription: 4-Pin Small Outline Transistor Package, 6.5 x 3.5 mm Body, 2.3 mm Pitch; Supplier 1: Mouser; Supplier Part Number 1: 726-BTS3205N; Supplier 2: Digi-Key; Supplier Part Number 2: BTS3205NINTR-ND; Supplier 3: Digi-Key; Supplier Part Number 3: BTS3205NINCT-ND; Supplier 4: Digi-Key; Supplier Part Number 4: BTS3205NINDKR-ND; Halogen-free: FALSE; Packing: Reel; Mounting Technology: Surface Mount; ComponentLink1Description: Manufacturer URL; ComponentLink1URL: http://www.infineon.com/; ComponentLink2Description: Datasheet; ComponentLink2URL: http://www.infineon.com/dgdl/BTS3205N_DS_11.pdf?folderId=db3a3043163797a6011667aa084c0e01&fileId=db3a30431ed1d7b2011f4ba4f81d5ec6&location=en.Products.Automotive_ICs.Smart_High-_and_Low-Side_Switches.HITFET___TEMPFET__-_Smart_Low-Side_Switches.DATASHEET.BTS3205N_DS_11.pdf; ComponentLink3Description: Package Specification; ComponentLink3URL: http://www.infineon.com/dgdl/SOT223-Package_Overview.pdf?folderId=db3a30431936bc4b0119530470b03c3d&fileId=db3a30431936bc4b0119531d40b93c5c
footprint INF-PG-SOT223_SC-73_N (SOT223, 4-Leads, Body 6.5x3.5mm, Pitch 2.3mm, IPC Medium Density)
footprint INF-PG-SOT223_SC-73_L (SOT223, 4-Leads, Body 6.5x3.5mm, Pitch 2.3mm, IPC High Density)
footprint INF-PG-SOT223_SC-73_M (SOT223, 4-Leads, Body 6.5x3.5mm, Pitch 2.3mm, IPC Low Density)
pins: 1 IN (in), 2 DRAIN (power), 3 SOURCE (power), 4 DRAIN (power)

## BTS3207N
designator U?
Smart Low-Side Power Switch HITFET, 42 V VDS, 0.64 A ID, -40 to 150 degC, PG-SOT223-SC-73, Reel, Green; Manufacturer: Infineon; PartNumber: BTS3207N; Channels: 1; Green: TRUE; ID: 0.64 A; ID(lim) (min): 5 A; Ptot (max): 3.8 W; RDS (on)(max): 500 mOhm; ton (max): 100 us; VDS (max): 42 V; DatasheetVersion: Rev. 1.2; PackageVersion: Apr-08; PackageReference: PG-SOT223 (SC-73); PackageDescription: 4-Pin Small Outline Transistor Package, 6.5 x 3.5 mm Body, 2.3 mm Pitch; Supplier 1: Mouser; Supplier Part Number 1: 726-BTS3207N; Supplier 2: Newark; Supplier Part Number 2: 78X4826; Supplier 3: Farnell; Supplier Part Number 3: 2432484; Supplier 4: Digi-Key; Supplier Part Number 4: BTS3207NTR-ND; Supplier 5: Digi-Key; Supplier Part Number 5: BTS3207NCT-ND; Supplier 6: Digi-Key; Supplier Part Number 6: BTS3207NDKR-ND; Group: HITFET; Halogen-free: FALSE; ID(nom): 0.64 A; Packing: Reel; toff (max): 100 us; Mounting Technology: Surface Mount; ComponentLink1Description: Manufacturer URL; ComponentLink1URL: http://www.infineon.com/; ComponentLink2Description: Datasheet; ComponentLink2URL: http://www.infineon.com/dgdl/BTS3207N_DS_12.pdf?folderId=db3a3043163797a6011667aa084c0e01&fileId=db3a30431f848401011f85eb6f97001d&location=en.Products.Automotive_ICs.Smart_High-_and_Low-Side_Switches.HITFET___TEMPFET__-_Smart_Low-Side_Switches.DATASHEET.BTS3207N_DS_12.pdf; ComponentLink3Description: Package Specification; ComponentLink3URL: http://www.infineon.com/dgdl/SOT223-Package_Overview.pdf?folderId=db3a30431936bc4b0119530470b03c3d&fileId=db3a30431936bc4b0119531d40b93c5c
footprint INF-PG-SOT223_SC-73_N (SOT223, 4-Leads, Body 6.5x3.5mm, Pitch 2.3mm, IPC Medium Density)
footprint INF-PG-SOT223_SC-73_L (SOT223, 4-Leads, Body 6.5x3.5mm, Pitch 2.3mm, IPC High Density)
footprint INF-PG-SOT223_SC-73_M (SOT223, 4-Leads, Body 6.5x3.5mm, Pitch 2.3mm, IPC Low Density)
pins: 1 IN (in), 2 DRAIN (power), 3 SOURCE (power), 4 DRAIN (power)

## BTS3256D
designator U?
HITFET 10 mOhm Smart Power Single Channel Low Side Switch with Restart and Variable Slew Rate, 40 V VDS, ID, -40 to 150 degC, PG-TO252-5-1, Reel, Green; Manufacturer: Infineon; PartNumber: BTS3256D; Channels: 1; Green: TRUE; ID(nom): 7.5 A; ID(lim) (min): 42 A; ISC (max): 30 A; RDS (on)(max): 10 mOhm; ton (max): 22 us; toff (max): 24 us; VDS (max): 40 V; DatasheetVersion: Rev. 1.0; PackageReference: PG-TO252-5-1; PackageDescription: 5-Pin Plastic (Green) Transistor Single Outline Package, 6.5 x 6.12 mm Body, 1.14 mm Pitch; Supplier 1: Mouser; Supplier Part Number 1: 726-BTS3256D; Supplier 2: Digi-Key; Supplier Part Number 2: BTS3256D-ND; Group: HITFET; Halogen-free: TRUE; Packing: Reel; Mounting Technology: Surface Mount; ComponentLink1Description: Manufacturer URL; ComponentLink1URL: http://www.infineon.com/; ComponentLink2Description: Datasheet; ComponentLink2URL: http://www.infineon.com/dgdl/BTS3256_DS_10.pdf?folderId=db3a3043163797a6011667aa084c0e01&fileId=db3a304320d39d590121a175cad77b78&location=en.Products.Automotive_ICs.Smart_High-_and_Low-Side_Switches.HITFET___TEMPFET__-_Smart_Low-Side_Switches.DATASHEET.BTS3256_DS_10.pdf; ComponentLink3Description: Package Specification; ComponentLink3URL: http://www.infineon.com/cms/packages/SMD_-_Surface_Mounted_Devices/P-PG-TO252/P-PG-TO252-05-001.html?__locale=en
footprint INF-PG-TO252-5-1_N (DPAK, 5-Leads, Body 6.5x6.12mm, Pitch 1.14mm, IPC Medium Density)
footprint INF-PG-TO252-5-1_L (DPAK, 5-Leads, Body 6.5x6.12mm, Pitch 1.14mm, IPC High Density)
footprint INF-PG-TO252-5-1_M (DPAK, 5-Leads, Body 6.5x6.12mm, Pitch 1.14mm, IPC Low Density)
pins: 1 VS (power) "Supply Voltage; Connected to Battery Voltage with Reverse protection Diode and Filter against EMC", 2 IN (in) "Control Input and Status Feedback; Digital input 3.3 V or 5 V logic.", 3 DRAIN (power) "Drain output; Protected low side power output channel, usually connected via load to battery", 4 SRP (in) "Slew Rate Preset; Used to de?ne slew rate, see Chapter 7.2 for details", 5 GND (power) "Ground; Power ground, pin connection needs to carry the load current from Drain"

## BTS3405G
designator U?
HITFET Smart Low-Side Power Switch, 42 V VDS, 0.6 A ID, -40 to 150 degC, PG-DSO-8-25, Reel, Green; Manufacturer: Infineon; PartNumber: BTS3405G; Channels: 2; Green: TRUE; ID(nom): 0.35 A; ID(lim) (min): 0.6 A; Ptot (max): 0.78 W; RDS (on)(max): 700 mOhm; ton (max): 38 us; toff (max): 45 us; VDS (max): 42 V; DatasheetVersion: Rev. 1.1; PackageVersion: Nov-07; PackageReference: PG-DSO-8-25; PackageDescription: 8-Pin Plastic (Green) Dual Small Outline Package, 4.9 x 3.9 mm Body, 1.27 mm Pitch; Supplier 1: Mouser; Supplier Part Number 1: 726-BTS3405G; Supplier 2: Newark; Supplier Part Number 2: 47W3385; Supplier 3: Farnell; Supplier Part Number 3: 2215525; Supplier 4: Digi-Key; Supplier Part Number 4: BTS3405GTR-ND; Supplier 5: Digi-Key; Supplier Part Number 5: BTS3405GCT-ND; Supplier 6: Digi-Key; Supplier Part Number 6: BTS3405GDKR-ND; Group: HITFET; Halogen-free: TRUE; Packing: Reel; Mounting Technology: Surface Mount; ComponentLink1Description: Manufacturer URL; ComponentLink1URL: http://www.infineon.com/; ComponentLink2Description: Datasheet; ComponentLink2URL: http://www.infineon.com/dgdl/BTS3405G_DS_11.pdf?folderId=db3a3043163797a6011667aa084c0e01&fileId=db3a30431689f4420116d43d769b0cc0&location=en.Products.Automotive_ICs.Smart_High-_and_Low-Side_Switches.HITFET___TEMPFET__-_Smart_Low-Side_Switches.DATASHEET.BTS3405G_DS_11.pdf; ComponentLink3Description: Package Specification; ComponentLink3URL: http://www.infineon.com/dgdl/BTS3410G_DS_13.pdf?folderId=db3a3043163797a6011667aa084c0e01&fileId=db3a3043271faefd01274d02cd525d4a&location=en.Products.Automotive_ICs.Smart_High-_and_Low-Side_Switches.HITFET___TEMPFET__-_Smart_Low-Side_Switches.DATASHEET.BTS3410G_DS_13.pdf
footprint INF-PG-DSO-8-25_N (SOP, 8-Leads, Body 4.9x3.9mm, Pitch 1.27mm, IPC Medium Density)
footprint INF-PG-DSO-8-25_L (SOP, 8-Leads, Body 4.9x3.9mm, Pitch 1.27mm, IPC High Density)
footprint INF-PG-DSO-8-25_M (SOP, 8-Leads, Body 4.9x3.9mm, Pitch 1.27mm, IPC Low Density)
pins: 1 SOURCE1 (power) "Ground connection for channel 1", 2 IN1 (in) "Input / Fault feedback for channel 1", 3 SOURCE2 (power) "Ground connection for channel 2", 4 IN2 (in) "Input / Fault feedback for channel 2", 5 DRAIN2 (power) "Load connection channel 2", 6 DRAIN2 (power) "Load connection channel 2", 7 DRAIN1 (power) "Load connection channel 1", 8 DRAIN1 (power) "Load connection channel 1"